# EAGLE library part 68021-206* (library volks73-FCI)
3x2-Pin Right Angle, Male Header BERGSTIK® II, MezzSelect™, Basics+ Documentation Drawing <http://portal.fciconnect.com/Comergent//fci/drawing/68020.pdf>
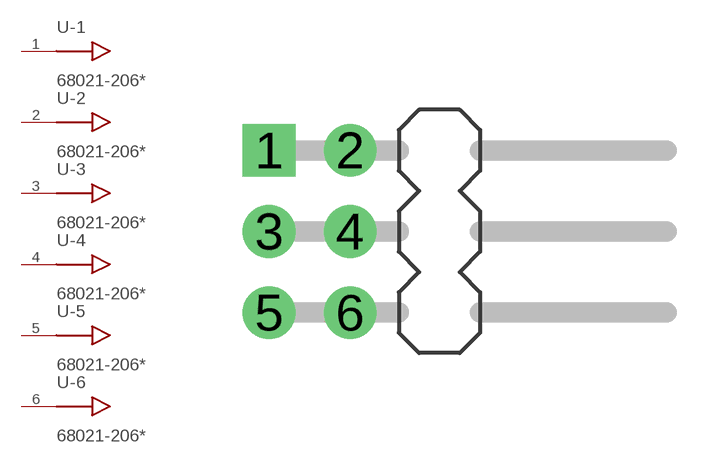
[diagram p2: symbol with the pads of 68021-206; footprint 68021-206]

Designator prefix -; gates -1=MALE_CONNECTOR -2=MALE_CONNECTOR -3=MALE_CONNECTOR -4=MALE_CONNECTOR -5=MALE_CONNECTOR -6=MALE_CONNECTOR

## 68021-206HLF (CATEGORY: Connectors, Interconnects; COLOR: Black; CONNECTOR_TYPE: Header, Unshrouded; CONTACT_FINISH: Gold or Gold, GXT™; CONTACT_FINISH_THICKNESS: 15µin (0.38µm); CONTACT_MATING_LENGTH: 0.230" (5.84mm); CONTACT_TYPE: Male; DESCRIPTION: CONN HEADER 6POS .100 R/A 15AU; DOCUMENTATION_LINK: <a href="http://portal.fciconnect.com/Comergent//fci/drawing/68020.pdf">Drawing</a>; DOCUMENTATION_URL: http://portal.fciconnect.com/Comergent//fci/drawing/68020.pdf; FAMILY: Rectangular Connectors - Headers, Male Pins; FASTENING_TYPE: -; FEATURES: -; MANUFACTURER: FCI; MOUNTING_TYPE: Through Hole, Right Angle; NUMBER_OF_POSITIONS: 6; NUMBER_OF_POSITIONS_LOADED: All; NUMBER_OF_ROWS: 2; PART_NUMBER: 68021-206HLF; PITCH: 0.100" (2.54mm); ROW_SPACING: 0.100" (2.54mm); SERIES: BERGSTIK® II, MezzSelect™, Basics+; SUPPLIER_ITEM_LINK: <a href="http://www.digikey.com/product-detail/en/68021-206HLF/609-3343-ND/1878487">Details</a>; SUPPLIER_ITEM_NUMBER: 609-3343-ND; SUPPLIER_ITEM_URL: http://www.digikey.com/product-detail/en/68021-206HLF/609-3343-ND/1878487; SUPPLIER_LINK: <a href="http://www.digikey.com">Home Page</a>; SUPPLIER_NAME: Digi-Key; SUPPLIER_URL: http://www.digikey.com; TERMINATION: Solder)  [68021-206]
1  -1:P$1
2  -2:P$1
3  -3:P$1
4  -4:P$1
5  -5:P$1
6  -6:P$1

## Footprint 68021-206 (pad centres in mm)
3x2-Pin Right Angle, Male Header
drill 1.1 square: 1 -1.27,2.54
drill 1.1: 2 1.27,2.54; 3 -1.27,0; 4 1.27,0; 5 -1.27,-2.54; 6 1.27,-2.54